# Altium footprint library MyPCB.PcbLib: 9 footprints
Each footprint in its own frame and in the unit in brackets; x right, y up, seen from the top. Pads: shape width x height; smd on the part's side, far side on the other; paste and mask are expansions set on the pad; w line width, h text height; cw(c..) or ccw(c..) is an arc to the next point about the centre after c.
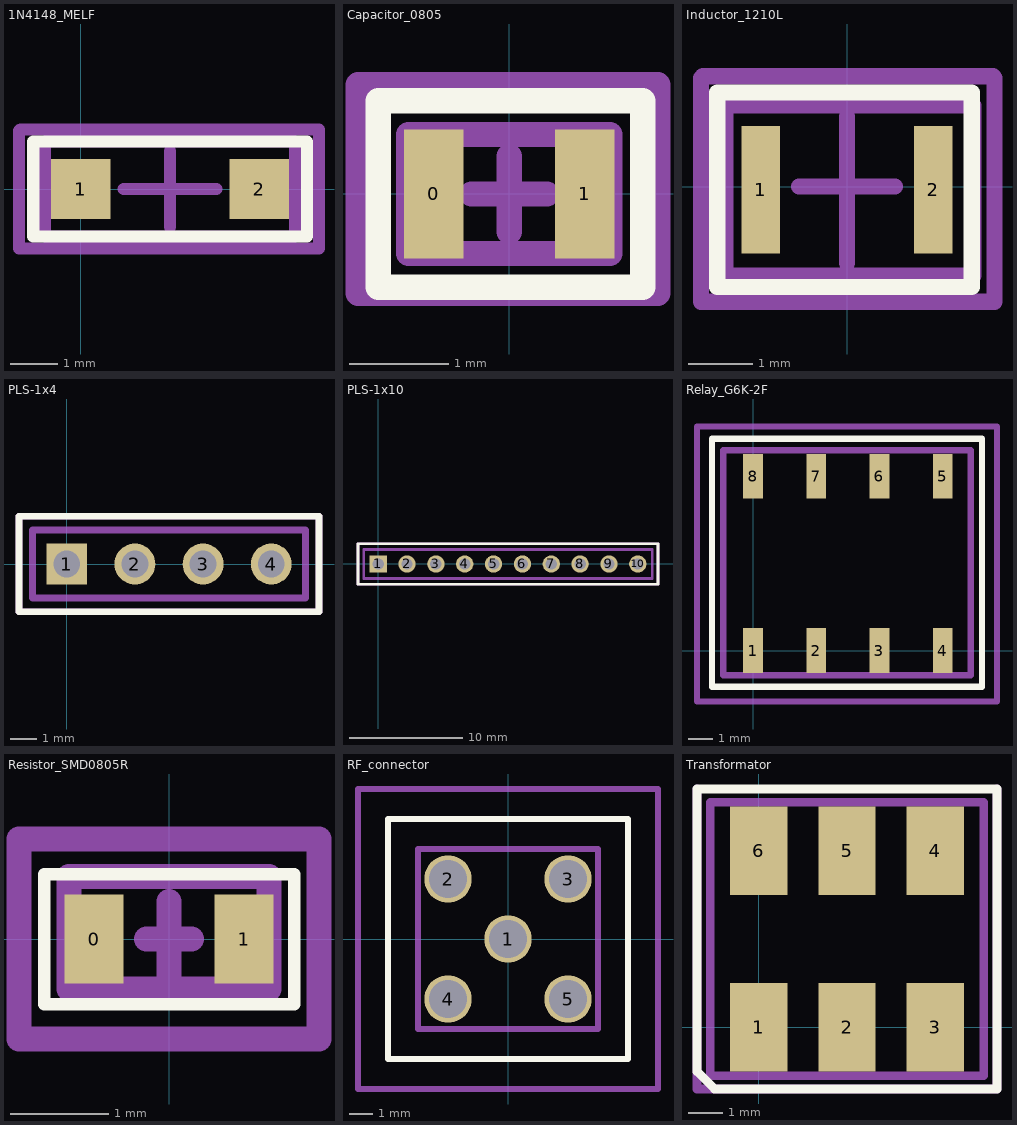
[diagram p0: the footprints below, top view; thin cyan lines are the x and y axes]

## 1N4148_MELF [mm]
pads (2):
  rect 1.25x1.25 smd: 1(0,0) 2(3.75,0)
Top Overlay:
  lines w0.254: -1,-1 -1,1 4.75,1 4.75,-1 -1,-1
3D Master:
  lines w0.254: -0.75,-1 4.5,-1 4.5,1 -0.75,1 -0.75,-1
Border:
  lines w0.254: 0.9,0 2.85,0 ; 1.87,-0.8 1.87,0.8 ; -1.3,-1.25 5,-1.25 5,1.25 -1.25,1.25 ccw(c-1.25,1.2) -1.3,1.2 -1.3,-1.25
3D body "MiniMelf.stp": height 1.6, standoff 0, extent 0.02,-0.8 3.72,0.8

## Capacitor_0805 [mm]
pads (2):
  rect 0.6x1.3 smd: 0(-0.762,0) 1(0.762,0)
Top Overlay:
  lines w0.254: -1.321,-0.94 -1.321,0.94 1.346,0.94 1.346,-0.94 -1.321,-0.94
Top assy:
  lines w0.254: -1.016,-0.6 1.016,-0.6 1.016,0.6 -1.016,0.6 -1.016,-0.6
Border:
  lines w0.254: -0.381,0 0.381,0 ; 0,-0.381 0,0.381 ; -1.524,-1 1.5,-1 1.5,1.1 -0.17,1.1 -1.524,1.1 -1.524,-1
3D body "0805_cap.stp": height 1.3, standoff 0, extent -1.016,-0.562 0.984,0.688

## Inductor_1210L [mm]
pads (2):
  rect 0.6x2 smd: 1(-1.35,-0.05) 2(1.35,-0.05)
Top Overlay:
  lines w0.254: -2.032,-1.575 -0.883,-1.575 0.806,-1.575 1.956,-1.575 1.956,1.473 -2.032,1.473 -2.032,-1.575
3D Master:
  lines w0.254: -1.905,-1.397 1.981,-1.397 1.981,1.27 -1.905,1.27 -1.905,-1.397
Border:
  lines w0.254: -0.75,0 0.75,0 ; 0,-1.2 0,1.1 ; -2.286,-1.803 2.311,-1.803 2.311,1.702 2.286,1.727 -2.261,1.727 -2.286,1.702 -2.286,-1.803
3D body "1210_ind.stp": height 2.21, standoff 0, extent -1.6,-1.3 1.6,1.2

## PLS-1x4 [mil]
pads (4):
  rect 60x60 hole 39.37: 1(0,0)
  round 60 hole 39.37: 2(100,0) 3(200,0) 4(300,0)
Top Overlay:
  lines w10: -70,-70 370,-70 370,70 -70,70 -70,-70
3D Master:
  lines w10: -50,-50 350,-50 350,50 -50,50 -50,-50
Border:
  lines w10: -70,-70 370,-70 370,70 -70,70 -70,-70
3D body "PLS-1x4.stp": height 334.65, standoff -118.11, extent -50,-50 350,50

## PLS-1x10 [mil]
pads (10):
  rect 60x60 hole 39.37: 1(0,0)
  round 60 hole 39.37: 2(100,0) 3(200,0) 4(300,0) 5(400,0) 6(500,0) 7(600,0) 8(700,0) 9(800,0) 10(900,0)
Top Overlay:
  lines w10: -70,-70 970,-70 970,70 -70,70 -70,-70
3D Master:
  lines w10: -50,-50 950,-50 950,50 -50,50 -50,-50
Border:
  lines w10: -70,-70 970,-70 970,70 -70,70 -70,-70
3D body "PLS-1x10.stp": height 334.65, standoff -118.11, extent -50,-50 950,50

## Relay_G6K-2F [mm]
pads (8):
  rect 0.8x1.8 smd: 1(0,0) 2(2.54,0) 3(5.08,0) 4(7.62,0) 5(7.62,7) 6(5.08,7) 7(2.54,7) 8(0,7)
Top Overlay:
  lines w0.254: -1.65,-1.45 9.2,-1.45 9.2,8.5 -1.65,8.5 -1.65,-1.45
3D Master:
  lines w0.254: -1.2,-1 8.75,-1 8.75,8.05 -1.2,8.05 -1.2,-1
Border:
  lines w0.254: -2.25,-2.05 9.8,-2.05 9.8,9 -2.25,9 -2.25,-2.05
3D body "relay_G6K-2F.stp": height 5.21, standoff 0, extent -1.2,-0.35 8.8,7.45

## Resistor_SMD0805R [mm]
pads (2):
  rect 0.6x0.9 smd: 0(-0.762,0) 1(0.762,0)
Top Overlay:
  lines w0.127: -1.27,-0.66 -1.27,-0.33 -1.27,0.33 -1.27,0.66 -0.635,0.66 0.635,0.66 1.27,0.66 1.27,-0.66 -1.27,-0.66
Top assy:
  lines w0.254: -1.016,-0.508 -1.016,0.635 1.016,0.635 1.016,-0.508 -1.016,-0.508
Border:
  lines w0.254: -0.229,0 0.229,0 ; 0,-0.381 0,0.381 ; -1.524,-1.016 1.524,-1.016 1.524,1.016 0.254,1.016 -1.524,1.016 -1.524,-1.016
3D body "Резистор 1206 _ 1206 SMD.stp": height 0.61, standoff 0, extent -1,-3.14 1,-1.94

## RF_connector [mm]
pads (5):
  round 2 hole 1.6: 1(0,0) 2(-2.54,2.54) 3(2.54,2.54) 4(-2.54,-2.54) 5(2.54,-2.54)
Top Overlay:
  lines w0.254: -5.08,-5.08 -5.08,5.08 5.08,5.08 5.08,-5.08 -5.08,-5.08
3D Master:
  lines w0.254: -3.81,-3.81 -3.81,3.81 3.81,3.81 3.81,-3.81 -3.81,-3.81
Border:
  lines w0.254: -6.35,-6.35 -6.35,6.35 6.35,6.35 6.35,-6.35 -6.35,-6.35
3D body "SMA_connector.stp": height 9.5, standoff -4, extent -3.25,-3.25 3.25,3.25

## Transformator [mm]
pads (6):
  rect 1.65x2.54 smd: 1(0,0) 2(2.54,0) 3(5.08,0) 4(5.08,5.08) 5(2.54,5.08) 6(0,5.08)
Top Overlay:
  lines w0.254: -1.778,-1.27 -1.27,-1.778 6.858,-1.778 6.858,0.635 6.858,4.953 6.858,6.35 6.858,6.604 6.858,6.858 -1.778,6.858 -1.778,-1.27
3D Master:
  lines w0.254: -1.397,-1.397 -1.397,6.477 6.477,6.477 6.477,-1.397 -1.397,-1.397
Border:
  lines w0.254: -1.778,6.858 -1.778,-1.778 6.858,-1.778 6.858,6.858
3D body "балун.stp": height 2.85, standoff 0, extent -1.372,-0.89 6.498,6.02